# EAGLE library part LTC1856 (library HostlerLib)
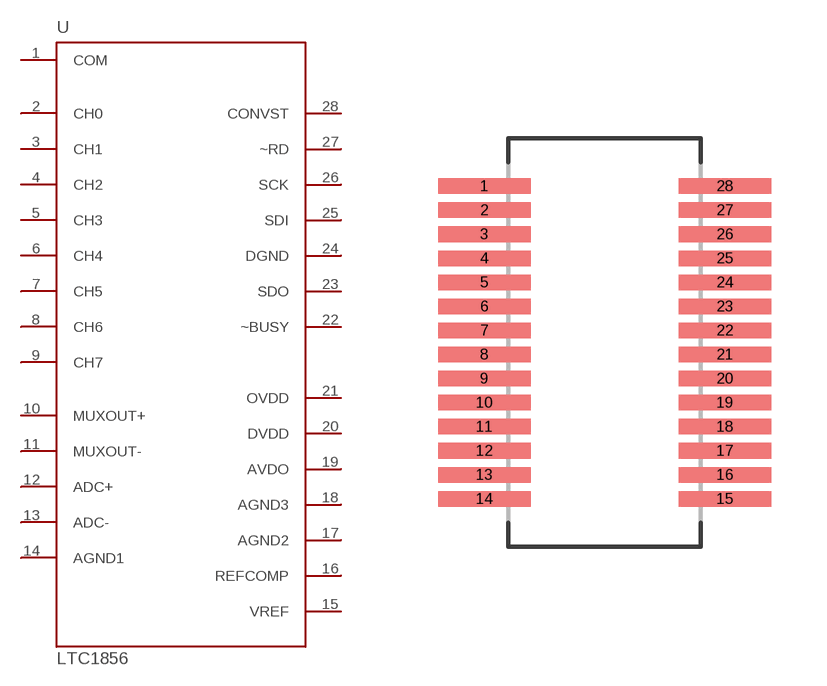
[diagram p0: symbol with the pads of SSOP-28; footprint SSOP-28]

Designator prefix -

## LTC1856SSOP28  [SSOP-28]
1  COM
2  CH0
3  CH1
4  CH2
5  CH3
6  CH4
7  CH5
8  CH6
9  CH7
10  MUXOUT+
11  MUXOUT-
12  ADC+
13  ADC-
14  AGND1
15  VREF
16  REFCOMP
17  AGND2
18  AGND3
19  AVDO
20  DVDD
21  OVDD
22  ~BUSY
23  SDO
24  DGND
25  SDI
26  SCK
27  ~RD
28  CONVST

## Footprint SSOP-28 (pad centres in mm)
smd 2.5 x 0.42: 1 -3.25,3.9; 2 -3.25,3.25; 3 -3.25,2.6; 4 -3.25,1.95; 5 -3.25,1.3; 6 -3.25,0.65; 7 -3.25,0; 8 -3.25,-0.65; 9 -3.25,-1.3; 10 -3.25,-1.95; 11 -3.25,-2.6; 12 -3.25,-3.25; 13 -3.25,-3.9; 14 -3.25,-4.55; 15 3.25,-4.55; 16 3.25,-3.9; 17 3.25,-3.25; 18 3.25,-2.6; 19 3.25,-1.95; 20 3.25,-1.3; 21 3.25,-0.65; 22 3.25,0; 23 3.25,0.65; 24 3.25,1.3; 25 3.25,1.95; 26 3.25,2.6; 27 3.25,3.25; 28 3.25,3.9